# EAGLE library part GE_NPC-1210 (library cTechnologies_sensors)
The NPC-1210 low pressure series of solid state pressure sensors are designed to provide the same cost effective solution as NovaSensor®’s other NPC-1210 pressure ranges. Packaged in a dual-in-line configuration, this NPC-1210 series is intended for printed circuit board mounting. Optional pressure port and lead configurations give superior flexibility in low profile applications where pressure connection orientation is critical. The NPC-1210 series is based on NovaSensor®’s advanced SenStable® piezoresistive sensing tech- nology. Silicon micromachining techniques are used to ion implant piezoresistive strain gages into a Wheatstone bridge configuration. The NPC-1210 offers the added advantage of superior temperature performance over the temperature compensated range of 0°C to +60°C. A gain set resistor is included to provide field interchange- ability. The low pressure NPC-1210 series is avail- able in pressure ranges from 0 to 10 inches of water to 0 to 1 psi.
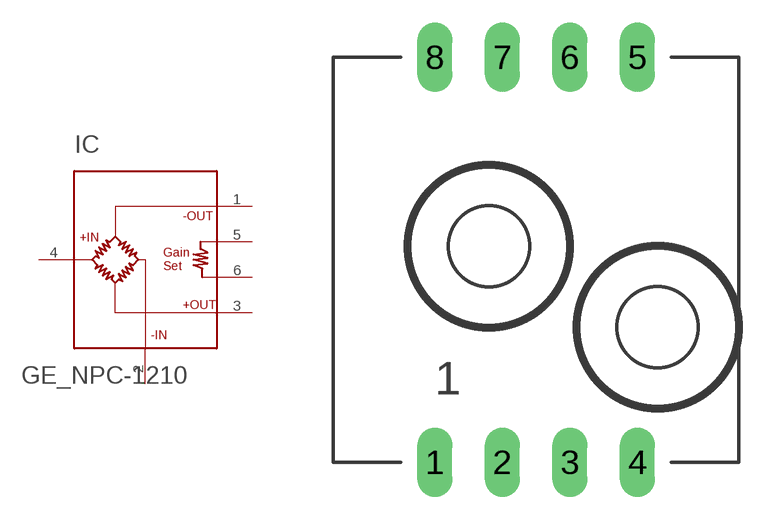
[diagram p1: symbol with the pads of GE_NPC-1210; footprint GE_NPC-1210]

Designator prefix IC

## GE_NPC-1210  [GE_NPC-1210]
1  -OUT
2  -IN
3  +OUT
4  +IN
5  GAIN_SET-
6  GAIN_SET+

## Footprint GE_NPC-1210 (pad centres in mm)
drill 0.8 long: 1 -3.81,-7.62; 2 -1.27,-7.62; 3 1.27,-7.62; 4 3.81,-7.62; 5 3.81,7.62; 6 1.27,7.62; 7 -1.27,7.62; 8 -3.81,7.62